# Altium schematic symbol library CustomParts.SchLib: 2 symbols
Pins are listed as number, name and electrical type; pins without a type are passive.

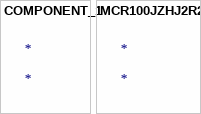
[diagram p0: symbols COMPONENT_1 to MCR100JZHJ2R2]

## COMPONENT_1
designator *

## MCR100JZHJ2R2
designator *